# EAGLE library part LM75BDP (library LM75BDP)
Digital temperature sensor and thermal watchdog
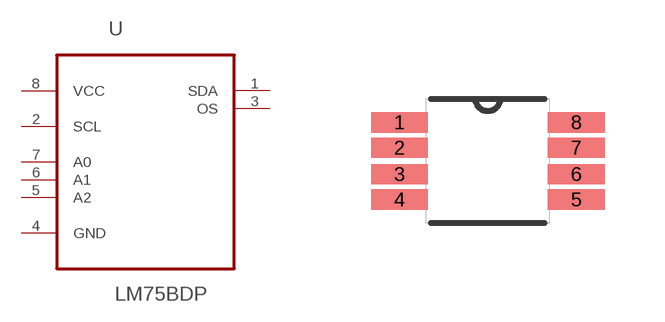
[diagram p0: symbol with the pads of SOP65P490X110-8N; footprint SOP65P490X110-8N]

Designator prefix U

## LM75BDP (AVAILABILITY: Unavailable; DESCRIPTION: Temperature Sensor Digital, Local -55°C ~ 125°C 11 b 8-TSSOP; MF: NXP Semiconductors; MP: LM75BDP; PACKAGE: TSSOP-8 NXP Semiconductors; PRICE: None)  [SOP65P490X110-8N]
1  SDA
2  SCL  in
3  OS  out
4  GND  pas
5  A2  in
6  A1  in
7  A0  in
8  VCC  pwr

## Footprint SOP65P490X110-8N (pad centres in mm)
smd 1.422 x 0.508: 1 -2.21,0.965; 2 -2.21,0.33; 3 -2.21,-0.33; 4 -2.21,-0.965; 5 2.21,-0.965; 6 2.21,-0.33; 7 2.21,0.33; 8 2.21,0.965